# Altium footprint library test_lib.PcbLib: 32 footprints (part 2 of 3)
Each footprint in its own frame and in the unit in brackets; x right, y up, seen from the top. Pads: shape width x height; smd on the part's side, far side on the other; paste and mask are expansions set on the pad; w line width, h text height; cw(c..) or ccw(c..) is an arc to the next point about the centre after c.
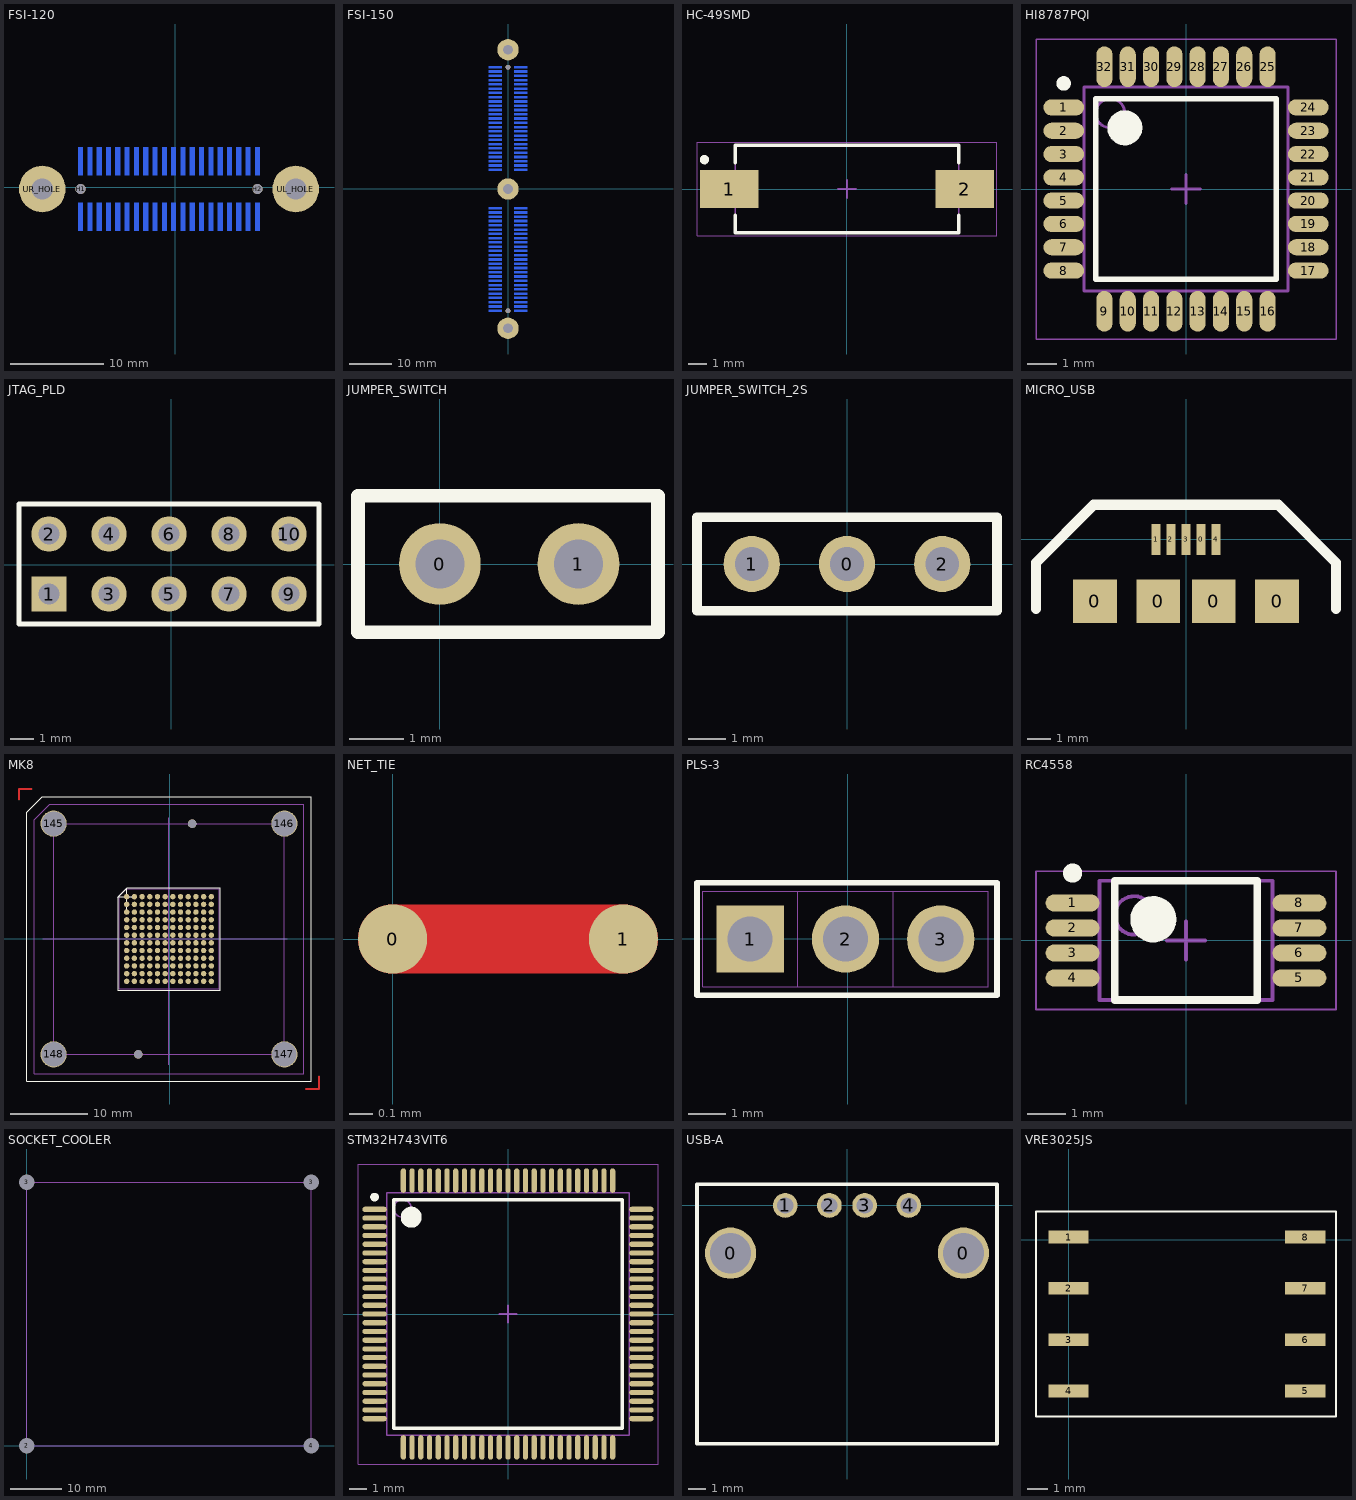
[diagram p1: the footprints below, top view; thin cyan lines are the x and y axes]

## FSI-120 [mm]
pads (44):
  rect 0.5x3 smd far side: 1(8.833,-3.186) 2(7.833,-3.186) 3(6.833,-3.186) 4(5.833,-3.186) 5(4.833,-3.186) 6(3.833,-3.186) 7(2.833,-3.186) 8(1.833,-3.186) 9(0.833,-3.186) 10(-0.167,-3.186) 11(-1.167,-3.186) 12(-2.167,-3.186) 13(-3.167,-3.186) 14(-4.167,-3.186) 15(-5.167,-3.186) 16(-6.167,-3.186) 17(-7.167,-3.186) 18(-8.167,-3.186) 19(-9.167,-3.186) 20(-10.167,-3.186) 21(-10.167,2.814) 22(-9.167,2.814) 23(-8.167,2.814) 24(-7.167,2.814) 25(-6.167,2.814) 26(-5.167,2.814) 27(-4.167,2.814) 28(-3.167,2.814) 29(-2.167,2.814) 30(-1.167,2.814) 31(-0.167,2.814) 32(0.833,2.814) 33(1.833,2.814) 34(2.833,2.814) 35(3.833,2.814) 36(4.833,2.814) 37(5.833,2.814) 38(6.833,2.814) 39(7.833,2.814) 40(8.833,2.814)
  round 1.1 hole 1.1 unplated: H1(-10.167,-0.186) H2(8.833,-0.186)
  round 5 hole 2.3: UL_HOLE(12.953,-0.186) UR_HOLE(-14.287,-0.186)
3D body "FSI-120-06-L-D-M-AD.stp": height 8.25, standoff -0.55, extent -17.717,-5.186 16.383,4.814

## FSI-150 [mm]
pads (105):
  round 1.1 hole 1.1 unplated: 1(-0.063,-28.521) 1(-0.063,28.479)
  rect 3x0.5 smd far side: R_1(-3.063,-28.52) R_2(2.937,-28.52) R_3(-3.063,-27.52) R_4(2.937,-27.52) R_5(-3.063,-26.52) R_6(2.937,-26.52) R_7(-3.063,-25.52) R_8(2.937,-25.52) R_9(-3.063,-24.52) R_10(2.937,-24.52) R_11(-3.063,-23.52) R_12(2.937,-23.52) R_13(-3.063,-22.52) R_14(2.937,-22.52) R_15(-3.063,-21.52) R_16(2.937,-21.52) R_17(-3.063,-20.52) R_18(2.937,-20.52) R_19(-3.063,-19.52) R_20(2.937,-19.52) R_21(-3.063,-18.52) R_22(2.937,-18.52) R_23(-3.063,-17.52) R_24(2.937,-17.52) R_25(-3.063,-16.52) R_26(2.937,-16.52) R_27(-3.063,-15.52) R_28(2.937,-15.52) R_29(-3.063,-14.52) R_30(2.937,-14.52) R_31(-3.063,-13.52) R_32(2.937,-13.52) R_33(-3.063,-12.52) R_34(2.937,-12.52) R_35(-3.063,-11.52) R_36(2.937,-11.52) R_37(-3.063,-10.52) R_38(2.937,-10.52) R_39(-3.063,-9.52) R_40(2.937,-9.52) R_41(-3.063,-8.52) R_42(2.937,-8.52) R_43(-3.063,-7.52) R_44(2.937,-7.52) R_45(-3.063,-6.52) R_46(2.937,-6.52) R_47(-3.063,-5.52) R_48(2.937,-5.52) R_49(-3.063,-4.52) R_50(2.937,-4.52) R_51(-3.063,4.479) R_52(2.937,4.479) R_53(-3.063,5.479) R_54(2.937,5.479) R_55(-3.063,6.479) R_56(2.937,6.479) R_57(-3.063,7.479) R_58(2.937,7.479) R_59(-3.063,8.479) R_60(2.937,8.479) R_61(-3.063,9.479) R_62(2.937,9.479) R_63(-3.063,10.479) R_64(2.937,10.479) R_65(-3.063,11.479) R_66(2.937,11.479) R_67(-3.063,12.479) R_68(2.937,12.479) R_69(-3.063,13.479) R_70(2.937,13.479) R_71(-3.063,14.479) R_72(2.937,14.479) R_73(-3.063,15.479) R_74(2.937,15.479) R_75(-3.063,16.479) R_76(2.937,16.479) R_77(-3.063,17.479) R_78(2.937,17.479) R_79(-3.063,18.479) R_80(2.937,18.479) R_81(-3.063,19.479) R_82(2.937,19.479) R_83(-3.063,20.479) R_84(2.937,20.479) R_85(-3.063,21.479) R_86(2.937,21.479) R_87(-3.063,22.479) R_88(2.937,22.479) R_89(-3.063,23.479) R_90(2.937,23.479) R_91(-3.063,24.479) R_92(2.937,24.479) R_93(-3.063,25.479) R_94(2.937,25.479) R_95(-3.063,26.479) R_96(2.937,26.479) R_97(-3.063,27.479) R_98(2.937,27.479) R_99(-3.063,28.479) R_100(2.937,28.479)
  round 5 hole 2.3: RB_HOLE(-0.063,-32.641) RM_HOLE(-0.063,-0.021) RU_HOLE(-0.063,32.599)
3D body "FSI-150-06-L-D-M-AD.stp": height 8.25, standoff -0.55, extent -5.141,-36.051 4.859,36.049

## HC-49SMD [mm]
height 1.1
pads (2):
  rect 3.15x2.05 smd: 1(-6.325,0) 2(6.325,0)
Top Overlay:
  circle w0.25: c-7.65,1.575 r0.125
  lines w0.2: -6,-1.425 -6,-2.35 6,-2.35 6,-1.425 ; -6,1.425 -6,2.35 6,2.35 6,1.425
Mechanical 13:
  lines w0.1: -6,-2.35 6,-2.35 6,2.35 -6,2.35 -6,-2.35
Mechanical 15:
  lines w0.05: -8.05,-2.5 8.05,-2.5 8.05,2.5 -8.05,2.5 -8.05,-2.5
  lines w0.1: -0.5,0 0.5,0 ; 0,-0.5 0,0.5
3D body "User Library-HC49-SMD.step": height 5.1, standoff 0, extent -7.5,-2.25 7.5,2.25

## HI8787PQI [mm]
pads (32):
  oval 1.4x0.55 smd: 1(-4.2,2.8) 2(-4.2,2) 3(-4.2,1.2) 4(-4.2,0.4) 5(-4.2,-0.4) 6(-4.2,-1.2) 7(-4.2,-2) 8(-4.2,-2.8) 17(4.2,-2.8) 18(4.2,-2) 19(4.2,-1.2) 20(4.2,-0.4) 21(4.2,0.4) 22(4.2,1.2) 23(4.2,2) 24(4.2,2.8)
  oval 0.55x1.4 smd: 9(-2.8,-4.2) 10(-2,-4.2) 11(-1.2,-4.2) 12(-0.4,-4.2) 13(0.4,-4.2) 14(1.2,-4.2) 15(2,-4.2) 16(2.8,-4.2) 25(2.8,4.2) 26(2,4.2) 27(1.2,4.2) 28(0.4,4.2) 29(-0.4,4.2) 30(-1.2,4.2) 31(-2,4.2) 32(-2.8,4.2)
Top Overlay:
  circle w0.6: c-2.1,2.1 r0.3
  circle w0.25: c-4.2,3.625 r0.125
  lines w0.2: -3.1,-3.1 3.1,-3.1 3.1,3.1 -3.1,3.1 -3.1,-3.1
Mechanical 13:
  circle w0.1: c-2.6,2.6 r0.5
  lines w0.1: -3.5,-3.5 3.5,-3.5 3.5,3.5 -3.5,3.5 -3.5,-3.5
Mechanical 15:
  lines w0.05: -5.15,-5.15 5.15,-5.15 5.15,5.15 -5.15,5.15 -5.15,-5.15
  lines w0.1: -0.5,0 0.5,0 ; 0,-0.5 0,0.5
3D body: height 1.2, standoff 0.05, extent -3.5,-3.5 3.5,3.5

## JTAG_PLD [mm]
pads (10):
  rect 1.5x1.5 hole 0.9: 1(-5.166,-1.248)
  round 1.5 hole 0.9: 2(-5.166,1.292) 3(-2.626,-1.248) 4(-2.626,1.292) 5(-0.086,-1.248) 6(-0.086,1.292) 7(2.454,-1.248) 8(2.454,1.292) 9(4.994,-1.248) 10(4.994,1.292)
Top Overlay:
  lines w0.2: -6.436,-2.518 6.264,-2.518 6.264,2.562 -6.436,2.562 -6.436,-2.518
3D body "User Library-BoxHeader_2R5W_254P_00D.step": height 9.1, standoff -3.1, extent -10.3,-4.4 10.3,4.4

## JUMPER_SWITCH [mm]
pads (2):
  round 1.5 hole 0.9: 0(0,0) 1(2.54,0)
Top Overlay:
  lines w0.254: -1.5,-1.25 4,-1.25 4,1.25 -1.5,1.25 -1.5,-1.25

## JUMPER_SWITCH_2S [mm] "2 state jumper switch"
pads (3):
  round 1.5 hole 0.9: 0(0,0) 1(-2.54,0) 2(2.54,0)
Top Overlay:
  lines w0.254: -4,-1.25 4,-1.25 4,1.25 -4,1.25 -4,-1.25

## MICRO_USB [mm] "smd micro usb connector"
pads (9):
  rect 1.9x1.9 smd: 0(-3.95,-2.675) 0(-1.2,-2.675) 0(1.2,-2.675) 0(3.95,-2.675)
  rect 0.4x1.35 smd: 0(0.65,0) 1(-1.3,0) 2(-0.65,0) 3(0,0) 4(1.3,0)
Top Overlay:
  lines w0.45: -6.5,-3 -6.5,-1 -4,1.5 4,1.5 6.5,-1 6.5,-3
3D body "User Library-micro usb SMD.step": height 2.73, standoff 0.03, extent -3.9,-4.55 3.9,0.45

## MK8 [mm]
pads (150):
  round 3.4 / inner round 3.4 / far side round 6 hole 3.2: 145(-15.071,14.976) 146(14.929,14.976) 147(14.929,-15.024) 148(-15.071,-15.024)
  round 1.1 hole 1.1 unplated: 149(2.929,14.976) 150(-4.071,-15.024)
  round 0.7 smd paste-25.4 mask-25.4: A1(-5.571,5.476) A2(-4.571,5.476) A3(-3.571,5.476) A4(-2.571,5.476) A5(-1.571,5.476) A6(-0.571,5.476) A7(0.429,5.476) A8(1.429,5.476) A9(2.429,5.476) A10(3.429,5.476) A11(4.429,5.476) A12(5.429,5.476) B1(-5.571,4.476) B2(-4.571,4.476) B3(-3.571,4.476) B4(-2.571,4.476) B5(-1.571,4.476) B6(-0.571,4.476) B7(0.429,4.476) B8(1.429,4.476) B9(2.429,4.476) B10(3.429,4.476) B11(4.429,4.476) B12(5.429,4.476) C1(-5.571,3.476) C2(-4.571,3.476) C3(-3.571,3.476) C4(-2.571,3.476) C5(-1.571,3.476) C6(-0.571,3.476) C7(0.429,3.476) C8(1.429,3.476) C9(2.429,3.476) C10(3.429,3.476) C11(4.429,3.476) C12(5.429,3.476) D1(-5.571,2.476) D2(-4.571,2.476) D3(-3.571,2.476) D4(-2.571,2.476) D5(-1.571,2.476) D6(-0.571,2.476) D7(0.429,2.476) D8(1.429,2.476) D9(2.429,2.476) D10(3.429,2.476) D11(4.429,2.476) D12(5.429,2.476) F1(-5.571,1.476) F2(-4.571,1.476) F3(-3.571,1.476) F4(-2.571,1.476) F5(-1.571,1.476) F6(-0.571,1.476) F7(0.429,1.476) F8(1.429,1.476) F9(2.429,1.476) F10(3.429,1.476) F11(4.429,1.476) F12(5.429,1.476) G1(-5.571,0.476) G2(-4.571,0.476) G3(-3.571,0.476) G4(-2.571,0.476) G5(-1.571,0.476) G6(-0.571,0.476) G7(0.429,0.476) G8(1.429,0.476) G9(2.429,0.476) G10(3.429,0.476) G11(4.429,0.476) G12(5.429,0.476) H1(-5.571,-0.524) H2(-4.571,-0.524) H3(-3.571,-0.524) H4(-2.571,-0.524) H5(-1.571,-0.524) H6(-0.571,-0.524) H7(0.429,-0.524) H8(1.429,-0.524) H9(2.429,-0.524) H10(3.429,-0.524) H11(4.429,-0.524) H12(5.429,-0.524) J1(-5.571,-1.524) J2(-4.571,-1.524) J3(-3.571,-1.524) J4(-2.571,-1.524) J5(-1.571,-1.524) J6(-0.571,-1.524) J7(0.429,-1.524) J8(1.429,-1.524) J9(2.429,-1.524) J10(3.429,-1.524) J11(4.429,-1.524) J12(5.429,-1.524) K1(-5.571,-2.524) K2(-4.571,-2.524) K3(-3.571,-2.524) K4(-2.571,-2.524) K5(-1.571,-2.524) K6(-0.571,-2.524) K7(0.429,-2.524) K8(1.429,-2.524) K9(2.429,-2.524) K10(3.429,-2.524) K11(4.429,-2.524) K12(5.429,-2.524) L1(-5.571,-3.524) L2(-4.571,-3.524) L3(-3.571,-3.524) L4(-2.571,-3.524) L5(-1.571,-3.524) L6(-0.571,-3.524) L7(0.429,-3.524) L8(1.429,-3.524) L9(2.429,-3.524) L10(3.429,-3.524) L11(4.429,-3.524) L12(5.429,-3.524) M1(-5.571,-4.524) M2(-4.571,-4.524) M3(-3.571,-4.524) M4(-2.571,-4.524) M5(-1.571,-4.524) M6(-0.571,-4.524) M7(0.429,-4.524) M8(1.429,-4.524) M9(2.429,-4.524) M10(3.429,-4.524) M11(4.429,-4.524) M12(5.429,-4.524) N1(-5.571,-5.524) N2(-4.571,-5.524) N3(-3.571,-5.524) N4(-2.571,-5.524) N5(-1.571,-5.524) N6(-0.571,-5.524) N7(0.429,-5.524) N8(1.429,-5.524) N9(2.429,-5.524) N10(3.429,-5.524) N11(4.429,-5.524) N12(5.429,-5.524)
Top Layer:
  lines w0.25: -19.571,18.076 -19.571,19.476 -17.921,19.476 ; 17.729,-19.524 19.429,-19.524 19.429,-17.924
Top Overlay:
  lines w0.025: -6.571,5.476 -4.571,5.476 ; -5.571,3.476 -5.571,6.476
  lines w0.125: -18.571,-18.524 -18.571,16.476 -16.571,18.476 18.429,18.476 18.429,-18.524 -18.571,-18.524
  lines w0.152: -6.741,5.396 -6.739,-6.691 6.596,-6.691 6.596,6.644 -5.491,6.646 -6.739,5.394
Top Paste:
  drawing of 144 lines, arcs and shapes, not listed
Top Solder:
  drawing of 144 lines, arcs and shapes, not listed
Mechanical 1:
  lines w0.125: -17.571,-17.524 -17.571,15.476 -15.571,17.476 17.429,17.476 17.429,-17.524 -17.571,-17.524
  lines w0.152: -6.541,5.606 -5.631,6.496 6.459,6.496 6.459,-6.504 -6.541,-6.504 -6.541,5.616
Mechanical 3:
  lines w0.125: -16.491,-0.024 15.299,-0.024 ; -15.991,-15.024 15.359,-15.024 ; -15.431,14.976 15.509,14.976 ; -15.071,-15.454 -15.071,15.056 ; -0.071,-16.364 -0.071,15.726 ; 14.929,-15.404 14.929,15.476

## NET_TIE [mm]
pads (2):
  round 0.3 smd mask+0: 0(0,0) 1(1,0)
Top Layer:
  lines w0.3: 0,0 1,0

## PLS-3 [mm]
pads (3):
  rect 1.8x1.8 hole 1.2: 1(-2.605,-0.005)
  round 1.8 hole 1.2: 2(-0.065,-0.005) 3(2.475,-0.005)
Top Overlay:
  lines w0.15: -4.025,-1.505 3.975,-1.505 3.975,1.495 -4.025,1.495 -4.025,-1.505
Mechanical 1:
  lines w0.01: -1.335,-1.275 -1.335,1.265 ; -1.335,-1.275 -3.875,-1.275 -3.875,1.265 -1.335,1.265 ; -1.335,-1.275 1.205,-1.275 ; -1.335,1.265 1.205,1.265 ; 1.205,-1.275 3.745,-1.275 3.745,1.265 1.205,1.265 ; 1.205,-1.275 1.205,1.265

## RC4558 [mm] "TSOP, 8-Leads, RC4558 operation amplifier"
height 1.2
pads (8):
  oval 1.4x0.45 smd: 1(-2.95,0.975) 2(-2.95,0.325) 3(-2.95,-0.325) 4(-2.95,-0.975) 5(2.95,-0.975) 6(2.95,-0.325) 7(2.95,0.325) 8(2.95,0.975)
Top Overlay:
  circle w0.25: c-2.95,1.75 r0.125
  circle w0.6: c-0.85,0.55 r0.3
  lines w0.2: -1.85,-1.55 -1.85,1.55 1.85,1.55 1.85,-1.55 -1.85,-1.55
Mechanical 13:
  circle w0.1: c-1.35,0.65 r0.5
  lines w0.1: -2.25,-1.55 -2.25,1.55 2.25,1.55 2.25,-1.55 -2.25,-1.55
Mechanical 15:
  lines w0.05: -3.9,-1.8 -3.9,1.8 3.9,1.8 3.9,-1.8 -3.9,-1.8
  lines w0.1: -0.5,0 0.5,0 ; 0,-0.5 0,0.5
3D body: height 1.2, standoff 0.1, extent -2.25,-1.55 2.25,1.55

## SOCKET_COOLER [mm]
pads (4):
  round 1.524 hole 3 unplated: 2(0,0) 3(0,51) 3(55,51) 4(55,0)
Mechanical 3:
  lines w0.2: 0,0 55,0 55,51 0,51 0,0
3D body "cooler.step": height 76, standoff 0, extent -3,-3 58,62

## STM32H743VIT6 [mm] "cortex m7 uc"
height 1.6
pads (100):
  oval 1.4x0.3 smd: 1(-7.65,6) 2(-7.65,5.5) 3(-7.65,5) 4(-7.65,4.5) 5(-7.65,4) 6(-7.65,3.5) 7(-7.65,3) 8(-7.65,2.5) 9(-7.65,2) 10(-7.65,1.5) 11(-7.65,1) 12(-7.65,0.5) 13(-7.65,0) 14(-7.65,-0.5) 15(-7.65,-1) 16(-7.65,-1.5) 17(-7.65,-2) 18(-7.65,-2.5) 19(-7.65,-3) 20(-7.65,-3.5) 21(-7.65,-4) 22(-7.65,-4.5) 23(-7.65,-5) 24(-7.65,-5.5) 25(-7.65,-6) 51(7.65,-6) 52(7.65,-5.5) 53(7.65,-5) 54(7.65,-4.5) 55(7.65,-4) 56(7.65,-3.5) 57(7.65,-3) 58(7.65,-2.5) 59(7.65,-2) 60(7.65,-1.5) 61(7.65,-1) 62(7.65,-0.5) 63(7.65,0) 64(7.65,0.5) 65(7.65,1) 66(7.65,1.5) 67(7.65,2) 68(7.65,2.5) 69(7.65,3) 70(7.65,3.5) 71(7.65,4) 72(7.65,4.5) 73(7.65,5) 74(7.65,5.5) 75(7.65,6)
  oval 0.3x1.4 smd: 26(-6,-7.65) 27(-5.5,-7.65) 28(-5,-7.65) 29(-4.5,-7.65) 30(-4,-7.65) 31(-3.5,-7.65) 32(-3,-7.65) 33(-2.5,-7.65) 34(-2,-7.65) 35(-1.5,-7.65) 36(-1,-7.65) 37(-0.5,-7.65) 38(0,-7.65) 39(0.5,-7.65) 40(1,-7.65) 41(1.5,-7.65) 42(2,-7.65) 43(2.5,-7.65) 44(3,-7.65) 45(3.5,-7.65) 46(4,-7.65) 47(4.5,-7.65) 48(5,-7.65) 49(5.5,-7.65) 50(6,-7.65) 76(6,7.65) 77(5.5,7.65) 78(5,7.65) 79(4.5,7.65) 80(4,7.65) 81(3.5,7.65) 82(3,7.65) 83(2.5,7.65) 84(2,7.65) 85(1.5,7.65) 86(1,7.65) 87(0.5,7.65) 88(0,7.65) 89(-0.5,7.65) 90(-1,7.65) 91(-1.5,7.65) 92(-2,7.65) 93(-2.5,7.65) 94(-3,7.65) 95(-3.5,7.65) 96(-4,7.65) 97(-4.5,7.65) 98(-5,7.65) 99(-5.5,7.65) 100(-6,7.65)
Top Overlay:
  circle w0.25: c-7.65,6.7 r0.125
  circle w0.6: c-5.55,5.55 r0.3
  lines w0.2: -6.55,-6.55 -6.55,6.55 6.55,6.55 6.55,-6.55 -6.55,-6.55
Mechanical 13:
  circle w0.1: c-6.05,6.05 r0.5
  lines w0.1: -6.95,-6.95 -6.95,6.95 6.95,6.95 6.95,-6.95 -6.95,-6.95
Mechanical 15:
  lines w0.05: -8.6,-8.6 -8.6,8.6 8.6,8.6 8.6,-8.6 -8.6,-8.6
  lines w0.1: -0.5,0 0.5,0 ; 0,-0.5 0,0.5
3D body: height 1.6, standoff 0.5, extent -6.95,-6.95 6.95,6.95

## USB-A [mm] "usb-a female header"
pads (6):
  round 2.9 hole 2.3: 0(-6.6,-2.7) 0(6.6,-2.7)
  round 1.4 hole 0.92: 1(-3.5,0) 2(-1,0) 3(1,0) 4(3.5,0)
Top Overlay:
  lines w0.2: -8.5,-13.5 -8.5,1.2 8.5,1.2 8.5,-13.5 -8.5,-13.5
3D body "43750.stp": height 7.66, standoff -3.74, extent -7.902,-13.25 7.901,0.85

## VRE3025JS [mm]
pads (8):
  rect 2x0.63 smd: 1(0,0.12) 2(0,-2.42) 3(0,-4.96) 4(0,-7.5) 5(11.72,-7.5) 6(11.72,-4.96) 7(11.72,-2.42) 8(11.72,0.12)
Top Overlay:
  lines w0.1: -1.61,-8.77 -1.61,1.39 0.49,1.39 13.25,1.39 13.25,-8.77 0.39,-8.77 -1.61,-8.77